# Altium footprint library DIP-C  0607.PcbLib: 73 footprints (part 1 of 5)
Each footprint in its own frame and in the unit in brackets; x right, y up, seen from the top. Pads: shape width x height; smd on the part's side, far side on the other; paste and mask are expansions set on the pad; w line width, h text height; cw(c..) or ccw(c..) is an arc to the next point about the centre after c.
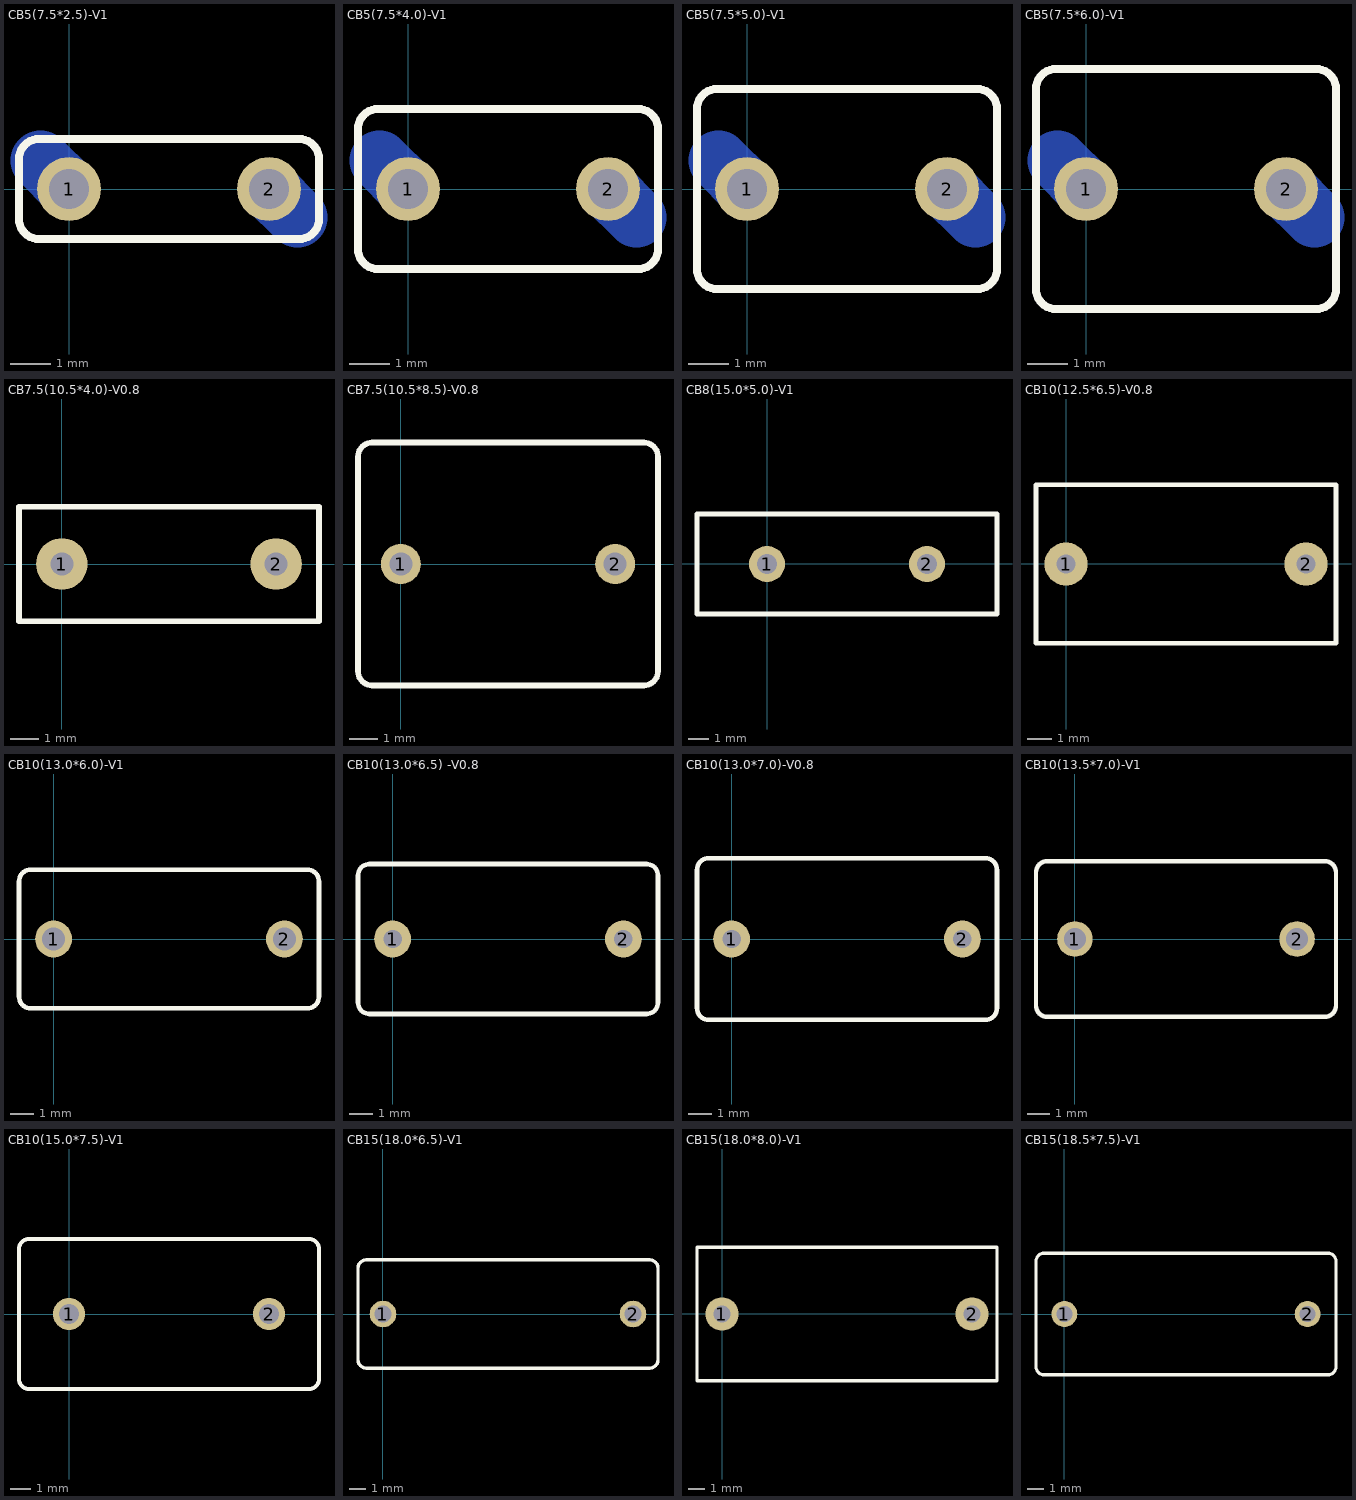
[diagram p0: the footprints below, top view; thin cyan lines are the x and y axes]

## CB5(7.5*2.5)-V1 [mm]
height 6.5
pads (2):
  round 1.6 hole 1: 1(0,0) 2(5,0)
BottomLayer:
  lines w1.5: -0.707,0.707 0,0 ; 5,0 5.707,-0.707
TopOverlay:
  lines w0.2: -1.25,-0.75 ccw(c-0.75,-0.75) -0.75,-1.25 5.75,-1.25 ccw(c5.75,-0.75) 6.25,-0.75 6.25,0.75 ccw(c5.75,0.75) 5.75,1.25 -0.75,1.25 ccw(c-0.75,0.75) -1.25,0.75 -1.25,-0.75
BottomSolder:
  lines w1: -0.707,0.707 0,0 ; 5,0 5.707,-0.707

## CB5(7.5*4.0)-V1 [mm]
height 7.5
pads (2):
  round 1.6 hole 1: 1(0,0) 2(5,0)
BottomLayer:
  lines w1.5: -0.707,0.707 0,0 ; 5,0 5.707,-0.707
TopOverlay:
  lines w0.2: -1.25,-1.5 ccw(c-0.75,-1.5) -0.75,-2 5.75,-2 ccw(c5.75,-1.5) 6.25,-1.5 6.25,1.5 ccw(c5.75,1.5) 5.75,2 -0.75,2 ccw(c-0.75,1.5) -1.25,1.5 -1.25,-1.5
BottomSolder:
  lines w1: -0.707,0.707 0,0 ; 5,0 5.707,-0.707

## CB5(7.5*5.0)-V1 [mm]
height 9.5
pads (2):
  round 1.6 hole 1: 1(0,0) 2(5,0)
BottomLayer:
  lines w1.5: -0.707,0.707 0,0 ; 5,0 5.707,-0.707
TopOverlay:
  lines w0.2: -1.25,-2 ccw(c-0.75,-2) -0.75,-2.5 5.75,-2.5 ccw(c5.75,-2) 6.25,-2 6.25,2 ccw(c5.75,2) 5.75,2.5 -0.75,2.5 ccw(c-0.75,2) -1.25,2 -1.25,-2
BottomSolder:
  lines w1: -0.707,0.707 0,0 ; 5,0 5.707,-0.707

## CB5(7.5*6.0)-V1 [mm]
height 9.5
pads (2):
  round 1.6 hole 1: 1(0,0) 2(5,0)
BottomLayer:
  lines w1.5: -0.707,0.707 0,0 ; 5,0 5.707,-0.707
TopOverlay:
  lines w0.2: -1.25,-2.5 ccw(c-0.75,-2.5) -0.75,-3 5.75,-3 ccw(c5.75,-2.5) 6.25,-2.5 6.25,2.5 ccw(c5.75,2.5) 5.75,3 -0.75,3 ccw(c-0.75,2.5) -1.25,2.5 -1.25,-2.5
BottomSolder:
  lines w1: -0.707,0.707 0,0 ; 5,0 5.707,-0.707

## CB7.5(10.5*4.0)-V0.8 [mm]
pads (2):
  round 1.8 hole 0.8: 1(0.005,0.005) 2(7.505,0.005)
TopOverlay:
  lines w0.2: -1.495,-1.995 -1.495,2.005 9.005,2.005 9.005,-1.995 -1.495,-1.995

## CB7.5(10.5*8.5)-V0.8 [mm]
height 9
pads (2):
  round 1.4 hole 0.8: 1(0,0) 2(7.5,0)
TopOverlay:
  lines w0.2: -1.5,-3.75 ccw(c-1,-3.75) -1,-4.25 8.5,-4.25 ccw(c8.5,-3.75) 9,-3.75 9,3.75 ccw(c8.5,3.75) 8.5,4.25 -1,4.25 ccw(c-1,3.75) -1.5,3.75 -1.5,-3.75

## CB8(15.0*5.0)-V1 [mm]
pads (2):
  round 1.8 hole 1: 1(-0.007,-0.011) 2(7.993,-0.011)
TopOverlay:
  lines w0.254: -3.507,-2.511 -3.507,2.489 11.493,2.489 11.493,-2.511 -3.507,-2.511

## CB10(12.5*6.5)-V0.8 [mm]
pads (2):
  round 1.8 hole 0.8: 1(-0.009,-0.007) 2(9.991,-0.007)
TopOverlay:
  lines w0.2: -1.259,-3.307 -1.259,3.293 11.241,3.293 11.241,-3.307 -1.259,-3.307

## CB10(13.0*6.0)-V1 [mm]
height 10
pads (2):
  round 1.6 hole 1: 1(0,0) 2(10,0)
TopOverlay:
  lines w0.2: -1.5,-2.5 ccw(c-1,-2.5) -1,-3 11,-3 ccw(c11,-2.5) 11.5,-2.5 11.5,2.5 ccw(c11,2.5) 11,3 -1,3 ccw(c-1,2.5) -1.5,2.5 -1.5,-2.5

## CB10(13.0*6.5) -V0.8 [mm]
height 10
pads (2):
  round 1.6 hole 0.8: 1(0,0) 2(10,0)
TopOverlay:
  lines w0.2: -1.5,-2.75 ccw(c-1,-2.75) -1,-3.25 11,-3.25 ccw(c11,-2.75) 11.5,-2.75 11.5,2.75 ccw(c11,2.75) 11,3.25 -1,3.25 ccw(c-1,2.75) -1.5,2.75 -1.5,-2.75

## CB10(13.0*7.0)-V0.8 [mm]
height 12.5
pads (2):
  round 1.6 hole 0.8: 1(0,0) 2(10,0)
TopOverlay:
  lines w0.2: -1.5,-3 ccw(c-1,-3) -1,-3.5 11,-3.5 ccw(c11,-3) 11.5,-3 11.5,3 ccw(c11,3) 11,3.5 -1,3.5 ccw(c-1,3) -1.5,3 -1.5,-3

## CB10(13.5*7.0)-V1 [mm]
height 12.5
pads (2):
  round 1.6 hole 1: 1(0,0) 2(10,0)
TopOverlay:
  lines w0.2: -1.75,-3 ccw(c-1.25,-3) -1.25,-3.5 11.25,-3.5 ccw(c11.25,-3) 11.75,-3 11.75,3 ccw(c11.25,3) 11.25,3.5 -1.25,3.5 ccw(c-1.25,3) -1.75,3 -1.75,-3

## CB10(15.0*7.5)-V1 [mm]
height 13
pads (2):
  round 1.6 hole 1: 1(0,0) 2(10,0)
TopOverlay:
  lines w0.2: -2.5,-3.25 ccw(c-2,-3.25) -2,-3.75 12,-3.75 ccw(c12,-3.25) 12.5,-3.25 12.5,3.25 ccw(c12,3.25) 12,3.75 -2,3.75 ccw(c-2,3.25) -2.5,3.25 -2.5,-3.25

## CB15(18.0*6.5)-V1 [mm]
height 11.5
pads (2):
  round 1.6 hole 1: 1(0,0) 2(15,0)
TopOverlay:
  lines w0.2: -1.5,-2.75 ccw(c-1,-2.75) -1,-3.25 16,-3.25 ccw(c16,-2.75) 16.5,-2.75 16.5,2.75 ccw(c16,2.75) 16,3.25 -1,3.25 ccw(c-1,2.75) -1.5,2.75 -1.5,-2.75

## CB15(18.0*8.0)-V1 [mm]
pads (2):
  round 2 hole 1: 1(-0.006,-0.006) 2(14.994,-0.006)
TopOverlay:
  lines w0.2: -1.506,-4.006 -1.506,3.994 16.494,3.994 16.494,-4.006 -1.506,-4.006

## CB15(18.5*7.5)-V1 [mm]
height 13.5
pads (2):
  round 1.6 hole 1: 1(0,0) 2(15,0)
TopOverlay:
  lines w0.2: -1.75,-3.25 ccw(c-1.25,-3.25) -1.25,-3.75 16.25,-3.75 ccw(c16.25,-3.25) 16.75,-3.25 16.75,3.25 ccw(c16.25,3.25) 16.25,3.75 -1.25,3.75 ccw(c-1.25,3.25) -1.75,3.25 -1.75,-3.25